# EAGLE library part INA303A1IPWR (library Sensor)
IC CURRENT SENSING AMP 14TSSOP Manufacturer's datasheet <http://www.ti.com/lit/ds/symlink/ina303.pdf>
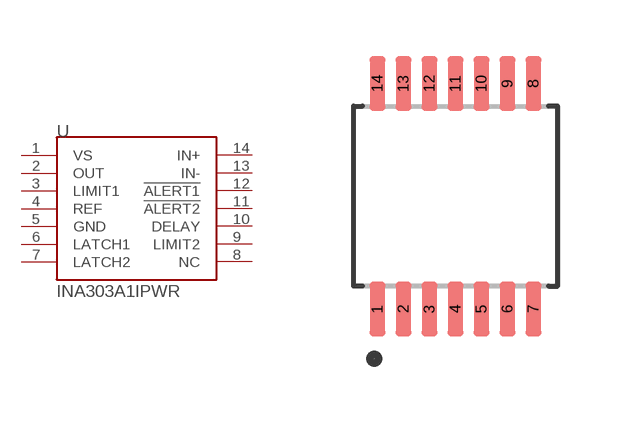
[diagram p3: symbol with the pads of INA303A1IPWR; footprint INA303A1IPWR]

Designator prefix U

## INA303A1IPWR (CREATED_BY: PCBLayout.com; DIGIKEY_PARTNO: 296-48913-2-ND; MANUFACTURER: Texas Instruments; MPN: INA303A1IPWR; PACKAGE: TSSOP-14)  [INA303A1IPWR]
1  VS  pwr
2  OUT  out
3  LIMIT1  in
4  REF  in
5  GND  pwr
6  LATCH1  in
7  LATCH2  in
8  NC  nc
9  LIMIT2  in
10  DELAY  in
11  !ALERT2  out
12  !ALERT1  out
13  IN-  in
14  IN+  in

## Footprint INA303A1IPWR (pad centres in mm)
Small Outline Pkg (SOP), 0.65 mm pitch; 14 pin, 5.00 mm L X 4.40 mm W X 1.20 mm H body PCB Libraries Packages
smd 0.39 x 1.37: 1 -1.95,-2.82; 2 -1.3,-2.82; 3 -0.65,-2.82; 4 0,-2.82; 5 0.65,-2.82; 6 1.3,-2.82; 7 1.95,-2.82; 8 1.95,2.82; 9 1.3,2.82; 10 0.65,2.82; 11 0,2.82; 12 -0.65,2.82; 13 -1.3,2.82; 14 -1.95,2.82